# EAGLE library part K155ID1 (library nixie)
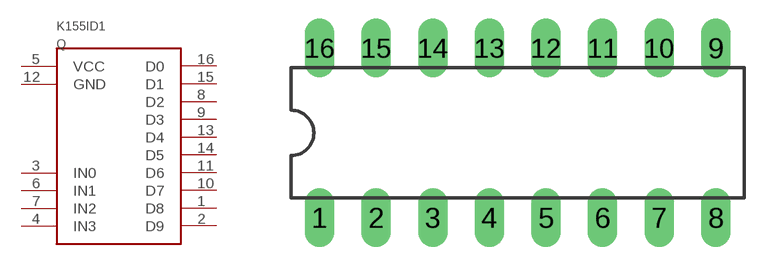
[diagram p1: symbol with the pads of DIL16; footprint DIL16]

Designator prefix Q

## K155ID1  [DIL16]
1  D8  out
2  D9  out
3  IN0  in
4  IN3  in
5  VCC  pwr
6  IN1  in
7  IN2  in
8  D2  out
9  D3  out
10  D7  out
11  D6  out
12  GND  pwr
13  D4  out
14  D5  out
15  D1  out
16  D0  out

## Footprint DIL16 (pad centres in mm)
Dual In Line Package
drill 0.813 long: 1 -8.89,-3.81; 2 -6.35,-3.81; 3 -3.81,-3.81; 4 -1.27,-3.81; 5 1.27,-3.81; 6 3.81,-3.81; 7 6.35,-3.81; 8 8.89,-3.81; 9 8.89,3.81; 10 6.35,3.81; 11 3.81,3.81; 12 1.27,3.81; 13 -1.27,3.81; 14 -3.81,3.81; 15 -6.35,3.81; 16 -8.89,3.81